# EAGLE library part TCA-9543A (library TCA9543A)
TCA9543A Low Voltage 2-Channel I2C Bus Switch With Interrupt Logic And Reset (Rev. A) The TCA9543A is a dual bidirectional translating switch controlled by the I2C bus. The SCL/SDA upstream pair fans out to two downstream pairs, or channels. Either individual SCn/SDn channel or both channels can be selected, determined by the contents of the programmable control register. Two interrupt inputs (INT1–INT0), one for each of the downstream pairs, are provided. One interrupt output (INT) acts as an AND of the two interrupt inputs. An active-low reset (RESET) input allows the TCA9543A to recover from a situation where one of the downstream I2C buses is stuck in a low state. Pulling RESET low resets the I2C state machine and causes both of the channels to be deselected, as does the internal power-on reset function. The pass gates of the switches are constructed such that the VCC terminal can be used to limit the maximum high voltage, which will be passed by the TCA9543A. This allows the use of different bus voltages on each pair, so that 1.8-V, 2.5-V, or 3.3-V parts can communicate with 5-V parts without any additional protection. External pull-up resistors pull the bus up to the desired voltage level for each channel. All I/O terminals are 5.5-V tolerant. Source: Texas Instruments http://www.ti.com/product/tca9543a/datasheet
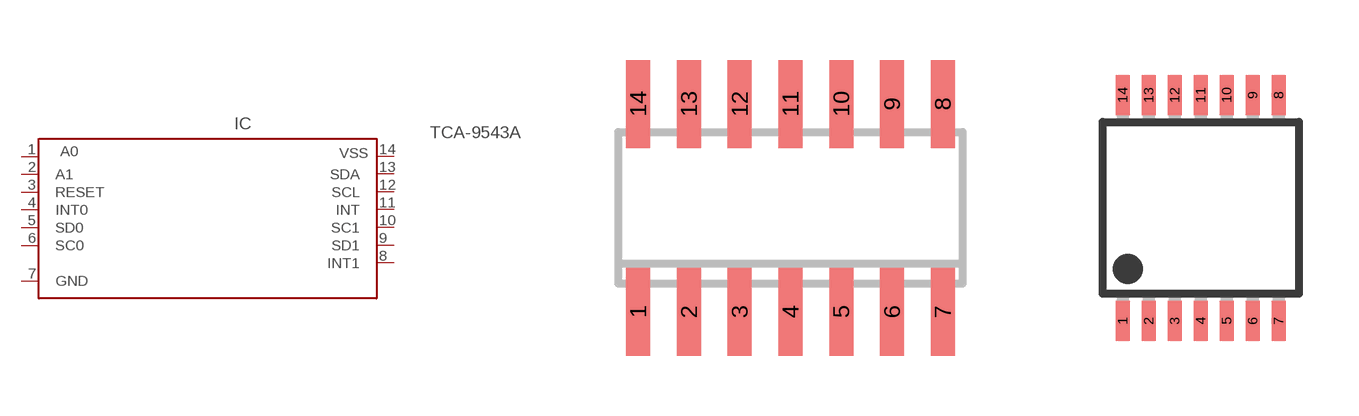
[diagram p0: symbol with the pads of SO-14; footprints SO-14, TSSOP14]

Designator prefix IC

## TCA-9543ASL (MF: MICROCHIP; MPN: PIC16F676-I/SL; OC_FARNELL: 9760520; OC_NEWARK: 92C4557)  [SO-14]
1  VDD  pwr
2  A1
3  RESET
4  INT0  in
5  SD0
6  SC0
7  GND
8  INT1
9  SD1
10  SC1
11  INT
12  SCL
13  SDA
14  VSS  pwr

## TCA-9543ATS (MF: MICROCHIP; MPN: PIC16F676-E/ST; OC_FARNELL: 9760539; OC_NEWARK: 92C4552)  [TSSOP14]
Pads as for SO-14

## Footprint SO-14 (pad centres in mm)
14 Pin SOIC Package Source: http://www.ti.com/lit/ds/symlink/tca9543a.pdf
smd 0.6 x 2.2: 1 -3.81,-2.6; 2 -2.54,-2.6; 3 -1.27,-2.6; 4 0,-2.6; 5 1.27,-2.6; 6 2.54,-2.6; 7 3.81,-2.6; 8 3.81,2.6; 9 2.54,2.6; 10 1.27,2.6; 11 0,2.6; 12 -1.27,2.6; 13 -2.54,2.6; 14 -3.81,2.6

## Footprint TSSOP14 (pad centres in mm)
14-Lead Plastic Thin Shrink Small Outline (ST) - 4.4 mm Body TSSOP Source: http://www.ti.com/lit/ds/symlink/tca9543a.pdf
smd 0.35 x 1: 1 -1.95,-2.825; 2 -1.3,-2.825; 3 -0.65,-2.825; 4 0,-2.825; 5 0.65,-2.825; 6 1.3,-2.825; 7 1.95,-2.825; 8 1.95,2.825; 9 1.3,2.825; 10 0.65,2.825; 11 0,2.825; 12 -0.65,2.825; 13 -1.3,2.825; 14 -1.95,2.825